# Altium footprint library Con Mod Jack PCB.PcbLib: 213 footprints (part 5 of 14)
Each footprint in its own frame and in the unit in brackets; x right, y up, seen from the top. Pads: shape width x height; smd on the part's side, far side on the other; paste and mask are expansions set on the pad; w line width, h text height; cw(c..) or ccw(c..) is an arc to the next point about the centre after c.
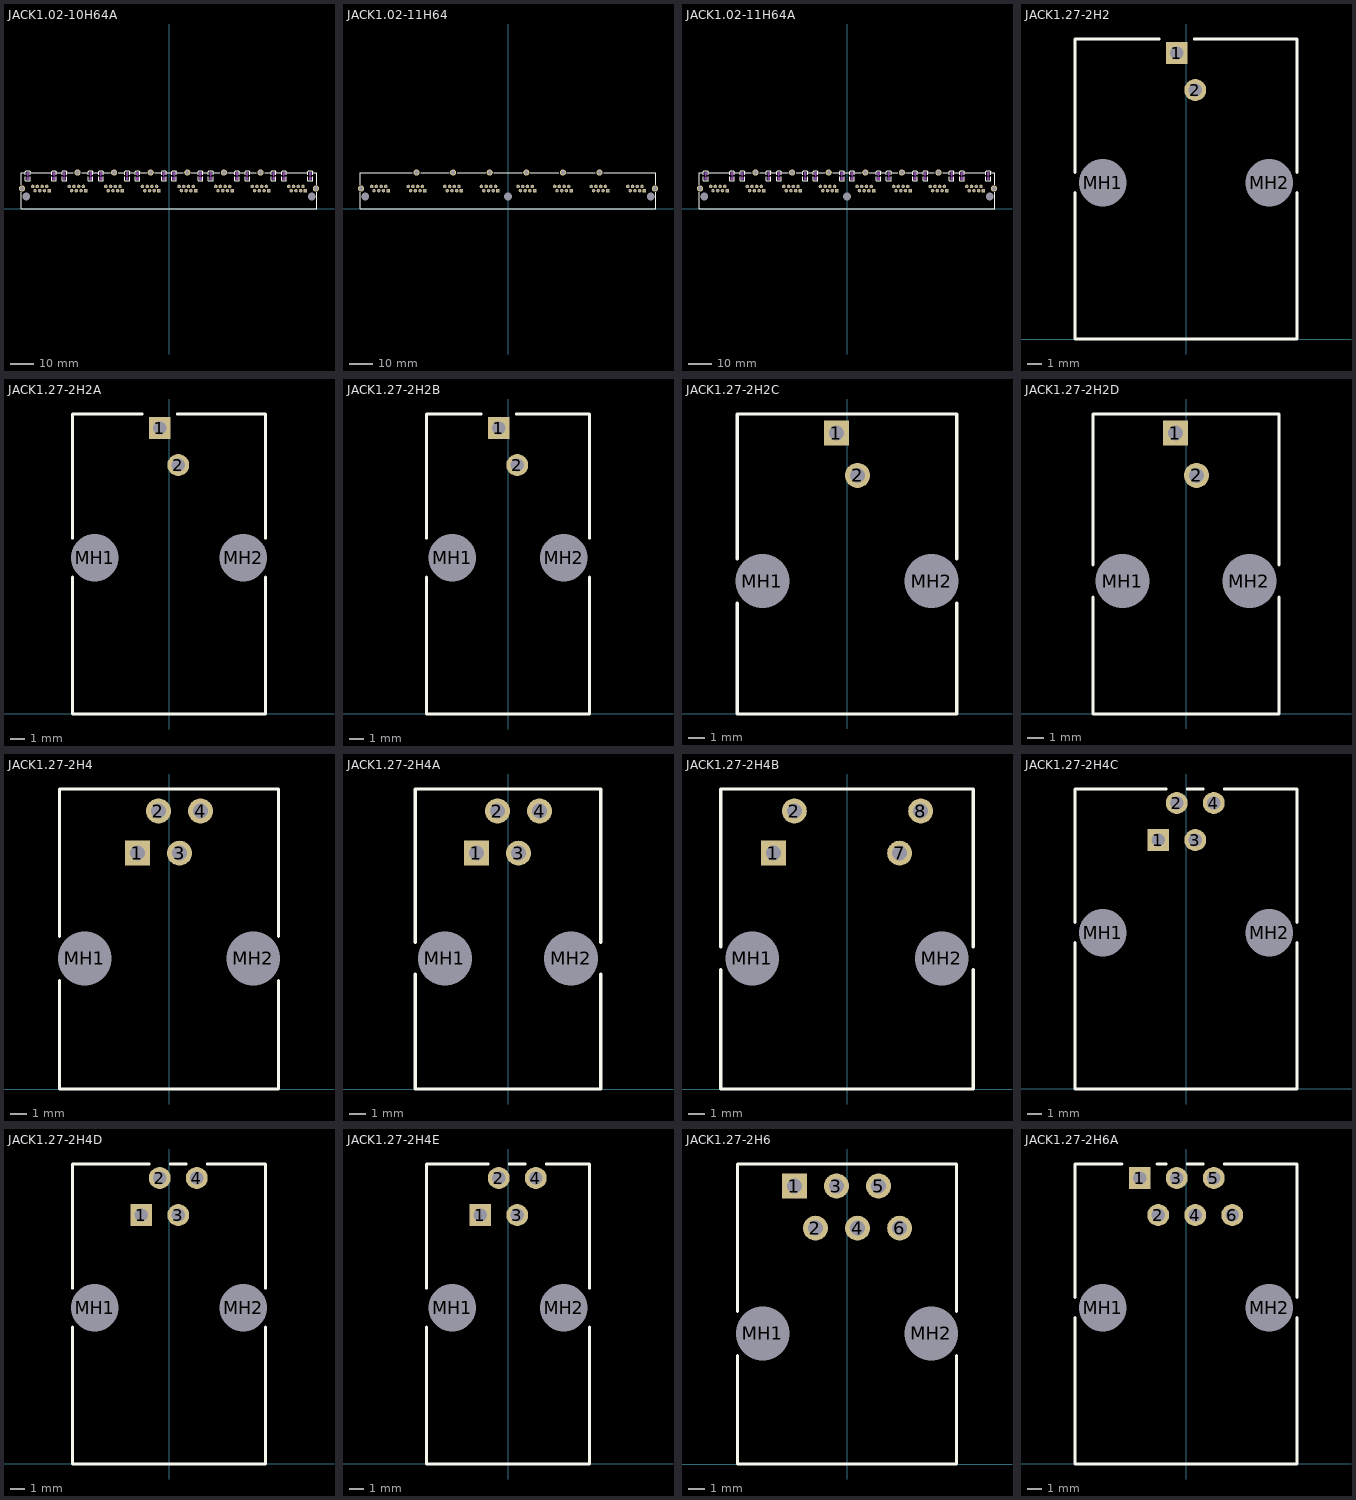
[diagram p4: the footprints below, top view; thin cyan lines are the x and y axes]

## JACK1.02-10H64A [mm] "Connector; PCB Jack, Thru-Hole; 8-Port, 8 Positions, 8 Loaded; Shielded with Lightpipes; Right Angle"
height 13.45
pads (74):
  rect 1.5x1.5 hole 0.9: A1(-51.562,7.72) B1(-35.814,7.72) C1(-20.066,7.72) D1(-4.318,7.72) E1(11.43,7.72) F1(27.178,7.72) G1(42.926,7.72) H1(58.674,7.72)
  round 1.5 hole 0.9: A2(-52.578,9.498) A3(-53.594,7.72) A4(-54.61,9.498) A5(-55.626,7.72) A6(-56.642,9.498) A7(-57.658,7.72) A8(-58.674,9.498) B2(-36.83,9.498) B3(-37.846,7.72) B4(-38.862,9.498) B5(-39.878,7.72) B6(-40.894,9.498) B7(-41.91,7.72) B8(-42.926,9.498) C2(-21.082,9.498) C3(-22.098,7.72) C4(-23.114,9.498) C5(-24.13,7.72) C6(-25.146,9.498) C7(-26.162,7.72) C8(-27.178,9.498) D2(-5.334,9.498) D3(-6.35,7.72) D4(-7.366,9.498) D5(-8.382,7.72) D6(-9.398,9.498) D7(-10.414,7.72) D8(-11.43,9.498) E2(10.414,9.498) E3(9.398,7.72) E4(8.382,9.498) E5(7.366,7.72) E6(6.35,9.498) E7(5.334,7.72) E8(4.318,9.498) F2(26.162,9.498) F3(25.146,7.72) F4(24.13,9.498) F5(23.114,7.72) F6(22.098,9.498) F7(21.082,7.72) F8(20.066,9.498) G2(41.91,9.498) G3(40.894,7.72) G4(39.878,9.498) G5(38.862,7.72) G6(37.846,9.498) G7(36.83,7.72) G8(35.814,9.498) H2(57.658,9.498) H3(56.642,7.72) H4(55.626,9.498) H5(54.61,7.72) H6(53.594,9.498) H7(52.578,7.72) H8(51.562,9.498)
  round 2.65 hole 1.6: MH1(-63.221,8.609) MH2(-39.37,15.492) MH3(-23.622,15.492) MH4(-7.874,15.492) MH5(7.874,15.492) MH6(23.622,15.492) MH7(39.37,15.492) MH8(63.221,8.609)
  round 2.95 hole 3.25: MH9(-61.468,5.18) MH10(61.468,5.18)
Top Overlay:
  drawing of 156 lines, arcs and shapes, not listed
Mechanical 1:
  rectangle: -61.382,12.378 -60.182,13.578
  rectangle: -61.382,14.461 -60.182,15.661
  rectangle: -50.054,12.378 -48.854,13.578
  rectangle: -50.054,14.461 -48.854,15.661
  rectangle: -45.634,12.378 -44.434,13.578
  rectangle: -45.634,14.461 -44.434,15.661
  rectangle: -34.306,12.378 -33.106,13.578
  rectangle: -34.306,14.461 -33.106,15.661
  rectangle: -29.886,12.378 -28.686,13.578
  rectangle: -29.886,14.461 -28.686,15.661
  rectangle: -18.558,12.378 -17.358,13.578
  rectangle: -18.558,14.461 -17.358,15.661
  rectangle: -14.138,12.378 -12.938,13.578
  rectangle: -14.138,14.461 -12.938,15.661
  rectangle: -2.81,12.378 -1.61,13.578
  rectangle: -2.81,14.461 -1.61,15.661
  rectangle: 1.61,12.378 2.81,13.578
  rectangle: 1.61,14.461 2.81,15.661
  rectangle: 12.938,12.378 14.138,13.578
  rectangle: 12.938,14.461 14.138,15.661
  rectangle: 17.358,12.378 18.558,13.578
  rectangle: 17.358,14.461 18.558,15.661
  rectangle: 28.686,12.378 29.886,13.578
  rectangle: 28.686,14.461 29.886,15.661
  rectangle: 33.106,12.378 34.306,13.578
  rectangle: 33.106,14.461 34.306,15.661
  rectangle: 44.434,12.378 45.634,13.578
  rectangle: 44.434,14.461 45.634,15.661
  rectangle: 48.854,12.378 50.054,13.578
  rectangle: 48.854,14.461 50.054,15.661
  rectangle: 60.182,12.378 61.382,13.578
  rectangle: 60.182,14.461 61.382,15.661
  lines w0.1: -60.982,14.019 -60.782,14.019 ; -60.782,13.819 -60.782,14.019 ; -60.782,14.219 -60.782,14.019 ; -60.582,14.019 -60.782,14.019 ; -49.654,14.019 -49.454,14.019 ; -49.454,13.819 -49.454,14.019 ; -49.454,14.219 -49.454,14.019 ; -49.254,14.019 -49.454,14.019 ; -45.234,14.019 -45.034,14.019 ; -45.034,13.819 -45.034,14.019 ; -45.034,14.219 -45.034,14.019 ; -44.834,14.019 -45.034,14.019 ; -33.906,14.019 -33.706,14.019 ; -33.706,13.819 -33.706,14.019 ; -33.706,14.219 -33.706,14.019 ; -33.506,14.019 -33.706,14.019 ; -29.486,14.019 -29.286,14.019 ; -29.286,13.819 -29.286,14.019 ; -29.286,14.219 -29.286,14.019 ; -29.086,14.019 -29.286,14.019 ; -18.158,14.019 -17.958,14.019 ; -17.958,13.819 -17.958,14.019 ; -17.958,14.219 -17.958,14.019 ; -17.758,14.019 -17.958,14.019 ; -13.738,14.019 -13.538,14.019 ; -13.538,13.819 -13.538,14.019 ; -13.538,14.219 -13.538,14.019 ; -13.338,14.019 -13.538,14.019 ; -2.41,14.019 -2.21,14.019 ; -2.21,13.819 -2.21,14.019 ; -2.21,14.219 -2.21,14.019 ; -2.01,14.019 -2.21,14.019 ; 2.01,14.019 2.21,14.019 ; 2.21,13.819 2.21,14.019 ; 2.21,14.219 2.21,14.019 ; 2.41,14.019 2.21,14.019 ; 13.338,14.019 13.538,14.019 ; 13.538,13.819 13.538,14.019 ; 13.538,14.219 13.538,14.019 ; 13.738,14.019 13.538,14.019 ; 17.758,14.019 17.958,14.019 ; 17.958,13.819 17.958,14.019 ; 17.958,14.219 17.958,14.019 ; 18.158,14.019 17.958,14.019 ; 29.086,14.019 29.286,14.019 ; 29.286,13.819 29.286,14.019 ; 29.286,14.219 29.286,14.019 ; 29.486,14.019 29.286,14.019 ; 33.506,14.019 33.706,14.019 ; 33.706,13.819 33.706,14.019 ; 33.706,14.219 33.706,14.019 ; 33.906,14.019 33.706,14.019 ; 44.834,14.019 45.034,14.019 ; 45.034,13.819 45.034,14.019 ; 45.034,14.219 45.034,14.019 ; 45.234,14.019 45.034,14.019 ; 49.254,14.019 49.454,14.019 ; 49.454,13.819 49.454,14.019 ; 49.454,14.219 49.454,14.019 ; 49.654,14.019 49.454,14.019 ; 60.582,14.019 60.782,14.019 ; 60.782,13.819 60.782,14.019 ; 60.782,14.219 60.782,14.019 ; 60.982,14.019 60.782,14.019

## JACK1.02-11H64 [mm] "Connector; PCB Jack, Thru-Hole; 8-Port, 8 Positions, 8 Loaded; Shielded without Lightpipes; Right Angle"
height 13.45
pads (75):
  rect 1.5x1.5 hole 0.9: A1(-51.562,7.72) B1(-35.814,7.72) C1(-20.066,7.72) D1(-4.318,7.72) E1(11.43,7.72) F1(27.178,7.72) G1(42.926,7.72) H1(58.674,7.72)
  round 1.5 hole 0.9: A2(-52.578,9.498) A3(-53.594,7.72) A4(-54.61,9.498) A5(-55.626,7.72) A6(-56.642,9.498) A7(-57.658,7.72) A8(-58.674,9.498) B2(-36.83,9.498) B3(-37.846,7.72) B4(-38.862,9.498) B5(-39.878,7.72) B6(-40.894,9.498) B7(-41.91,7.72) B8(-42.926,9.498) C2(-21.082,9.498) C3(-22.098,7.72) C4(-23.114,9.498) C5(-24.13,7.72) C6(-25.146,9.498) C7(-26.162,7.72) C8(-27.178,9.498) D2(-5.334,9.498) D3(-6.35,7.72) D4(-7.366,9.498) D5(-8.382,7.72) D6(-9.398,9.498) D7(-10.414,7.72) D8(-11.43,9.498) E2(10.414,9.498) E3(9.398,7.72) E4(8.382,9.498) E5(7.366,7.72) E6(6.35,9.498) E7(5.334,7.72) E8(4.318,9.498) F2(26.162,9.498) F3(25.146,7.72) F4(24.13,9.498) F5(23.114,7.72) F6(22.098,9.498) F7(21.082,7.72) F8(20.066,9.498) G2(41.91,9.498) G3(40.894,7.72) G4(39.878,9.498) G5(38.862,7.72) G6(37.846,9.498) G7(36.83,7.72) G8(35.814,9.498) H2(57.658,9.498) H3(56.642,7.72) H4(55.626,9.498) H5(54.61,7.72) H6(53.594,9.498) H7(52.578,7.72) H8(51.562,9.498)
  round 2.65 hole 1.6: MH1(-63.221,8.609) MH2(-39.37,15.492) MH3(-23.622,15.492) MH4(-7.874,15.492) MH5(7.874,15.492) MH6(23.622,15.492) MH7(39.37,15.492) MH8(63.221,8.609)
  round 2.95 hole 3.25: MH9(-61.468,5.18) MH10(0,5.18) MH11(61.468,5.18)
Top Overlay:
  lines w0.2: -63.493,6.906 -63.493,0 63.493,0 63.493,6.906 ; -63.493,10.312 -63.493,15.47 -41.095,15.47 ; -37.645,15.47 -25.347,15.47 ; -21.897,15.47 -9.599,15.47 ; -6.149,15.47 6.149,15.47 ; 9.599,15.47 21.897,15.47 ; 25.347,15.47 37.645,15.47 ; 41.095,15.47 63.493,15.47 63.493,10.312

## JACK1.02-11H64A [mm] "Connector; PCB Jack, Thru-Hole; 8-Port, 8 Positions, 8 Loaded; Shielded with Lightpipes; Right Angle"
height 13.45
pads (75):
  rect 1.5x1.5 hole 0.9: A1(-51.562,7.72) B1(-35.814,7.72) C1(-20.066,7.72) D1(-4.318,7.72) E1(11.43,7.72) F1(27.178,7.72) G1(42.926,7.72) H1(58.674,7.72)
  round 1.5 hole 0.9: A2(-52.578,9.498) A3(-53.594,7.72) A4(-54.61,9.498) A5(-55.626,7.72) A6(-56.642,9.498) A7(-57.658,7.72) A8(-58.674,9.498) B2(-36.83,9.498) B3(-37.846,7.72) B4(-38.862,9.498) B5(-39.878,7.72) B6(-40.894,9.498) B7(-41.91,7.72) B8(-42.926,9.498) C2(-21.082,9.498) C3(-22.098,7.72) C4(-23.114,9.498) C5(-24.13,7.72) C6(-25.146,9.498) C7(-26.162,7.72) C8(-27.178,9.498) D2(-5.334,9.498) D3(-6.35,7.72) D4(-7.366,9.498) D5(-8.382,7.72) D6(-9.398,9.498) D7(-10.414,7.72) D8(-11.43,9.498) E2(10.414,9.498) E3(9.398,7.72) E4(8.382,9.498) E5(7.366,7.72) E6(6.35,9.498) E7(5.334,7.72) E8(4.318,9.498) F2(26.162,9.498) F3(25.146,7.72) F4(24.13,9.498) F5(23.114,7.72) F6(22.098,9.498) F7(21.082,7.72) F8(20.066,9.498) G2(41.91,9.498) G3(40.894,7.72) G4(39.878,9.498) G5(38.862,7.72) G6(37.846,9.498) G7(36.83,7.72) G8(35.814,9.498) H2(57.658,9.498) H3(56.642,7.72) H4(55.626,9.498) H5(54.61,7.72) H6(53.594,9.498) H7(52.578,7.72) H8(51.562,9.498)
  round 2.65 hole 1.6: MH1(-63.221,8.609) MH2(-39.37,15.492) MH3(-23.622,15.492) MH4(-7.874,15.492) MH5(7.874,15.492) MH6(23.622,15.492) MH7(39.37,15.492) MH8(63.221,8.609)
  round 2.95 hole 3.25: MH9(-61.468,5.18) MH10(0,5.18) MH11(61.468,5.18)
Top Overlay:
  drawing of 156 lines, arcs and shapes, not listed
Mechanical 1:
  rectangle: -61.382,12.378 -60.182,13.578
  rectangle: -61.382,14.461 -60.182,15.661
  rectangle: -50.054,12.378 -48.854,13.578
  rectangle: -50.054,14.461 -48.854,15.661
  rectangle: -45.634,12.378 -44.434,13.578
  rectangle: -45.634,14.461 -44.434,15.661
  rectangle: -34.306,12.378 -33.106,13.578
  rectangle: -34.306,14.461 -33.106,15.661
  rectangle: -29.886,12.378 -28.686,13.578
  rectangle: -29.886,14.461 -28.686,15.661
  rectangle: -18.558,12.378 -17.358,13.578
  rectangle: -18.558,14.461 -17.358,15.661
  rectangle: -14.138,12.378 -12.938,13.578
  rectangle: -14.138,14.461 -12.938,15.661
  rectangle: -2.81,12.378 -1.61,13.578
  rectangle: -2.81,14.461 -1.61,15.661
  rectangle: 1.61,12.378 2.81,13.578
  rectangle: 1.61,14.461 2.81,15.661
  rectangle: 12.938,12.378 14.138,13.578
  rectangle: 12.938,14.461 14.138,15.661
  rectangle: 17.358,12.378 18.558,13.578
  rectangle: 17.358,14.461 18.558,15.661
  rectangle: 28.686,12.378 29.886,13.578
  rectangle: 28.686,14.461 29.886,15.661
  rectangle: 33.106,12.378 34.306,13.578
  rectangle: 33.106,14.461 34.306,15.661
  rectangle: 44.434,12.378 45.634,13.578
  rectangle: 44.434,14.461 45.634,15.661
  rectangle: 48.854,12.378 50.054,13.578
  rectangle: 48.854,14.461 50.054,15.661
  rectangle: 60.182,12.378 61.382,13.578
  rectangle: 60.182,14.461 61.382,15.661
  lines w0.1: -60.982,14.019 -60.782,14.019 ; -60.782,13.819 -60.782,14.019 ; -60.782,14.219 -60.782,14.019 ; -60.582,14.019 -60.782,14.019 ; -49.654,14.019 -49.454,14.019 ; -49.454,13.819 -49.454,14.019 ; -49.454,14.219 -49.454,14.019 ; -49.254,14.019 -49.454,14.019 ; -45.234,14.019 -45.034,14.019 ; -45.034,13.819 -45.034,14.019 ; -45.034,14.219 -45.034,14.019 ; -44.834,14.019 -45.034,14.019 ; -33.906,14.019 -33.706,14.019 ; -33.706,13.819 -33.706,14.019 ; -33.706,14.219 -33.706,14.019 ; -33.506,14.019 -33.706,14.019 ; -29.486,14.019 -29.286,14.019 ; -29.286,13.819 -29.286,14.019 ; -29.286,14.219 -29.286,14.019 ; -29.086,14.019 -29.286,14.019 ; -18.158,14.019 -17.958,14.019 ; -17.958,13.819 -17.958,14.019 ; -17.958,14.219 -17.958,14.019 ; -17.758,14.019 -17.958,14.019 ; -13.738,14.019 -13.538,14.019 ; -13.538,13.819 -13.538,14.019 ; -13.538,14.219 -13.538,14.019 ; -13.338,14.019 -13.538,14.019 ; -2.41,14.019 -2.21,14.019 ; -2.21,13.819 -2.21,14.019 ; -2.21,14.219 -2.21,14.019 ; -2.01,14.019 -2.21,14.019 ; 2.01,14.019 2.21,14.019 ; 2.21,13.819 2.21,14.019 ; 2.21,14.219 2.21,14.019 ; 2.41,14.019 2.21,14.019 ; 13.338,14.019 13.538,14.019 ; 13.538,13.819 13.538,14.019 ; 13.538,14.219 13.538,14.019 ; 13.738,14.019 13.538,14.019 ; 17.758,14.019 17.958,14.019 ; 17.958,13.819 17.958,14.019 ; 17.958,14.219 17.958,14.019 ; 18.158,14.019 17.958,14.019 ; 29.086,14.019 29.286,14.019 ; 29.286,13.819 29.286,14.019 ; 29.286,14.219 29.286,14.019 ; 29.486,14.019 29.286,14.019 ; 33.506,14.019 33.706,14.019 ; 33.706,13.819 33.706,14.019 ; 33.706,14.219 33.706,14.019 ; 33.906,14.019 33.706,14.019 ; 44.834,14.019 45.034,14.019 ; 45.034,13.819 45.034,14.019 ; 45.034,14.219 45.034,14.019 ; 45.234,14.019 45.034,14.019 ; 49.254,14.019 49.454,14.019 ; 49.454,13.819 49.454,14.019 ; 49.454,14.219 49.454,14.019 ; 49.654,14.019 49.454,14.019 ; 60.582,14.019 60.782,14.019 ; 60.782,13.819 60.782,14.019 ; 60.782,14.219 60.782,14.019 ; 60.982,14.019 60.782,14.019

## JACK1.27-2H2 [mm] "Connector; PCB Jack, Thru-Hole; 1-Port; Unshielded without Lightpipes; Right Angle"
height 18.92
pads (4):
  rect 1.5x1.5 hole 0.9: 1(-0.635,19.61)
  round 1.5 hole 0.9: 2(0.635,17.07)
  round 2.95 hole 3.25: MH1(-5.715,10.72) MH2(5.715,10.72)
Top Overlay:
  lines w0.2: -7.62,10.033 -7.62,0 7.62,0 7.62,10.033 ; -7.62,11.407 -7.62,20.57 -1.835,20.57 ; 0.565,20.57 7.62,20.57 7.62,11.407

## JACK1.27-2H2A [mm] "Connector; PCB Jack, Thru-Hole; 1-Port, 6 Positions, 2 Loaded; Unshielded without Lightpipes; Right Angle"
height 18.92
pads (4):
  rect 1.5x1.5 hole 0.9: 1(-0.635,19.61)
  round 1.5 hole 0.9: 2(0.635,17.07)
  round 2.95 hole 3.25: MH1(-5.08,10.72) MH2(5.08,10.72)
Top Overlay:
  lines w0.2: -6.605,9.388 -6.605,0 6.605,0 6.605,9.388 ; -6.605,12.052 -6.605,20.57 -1.835,20.57 ; 0.565,20.57 6.605,20.57 6.605,12.052

## JACK1.27-2H2B [mm] "Connector; PCB Jack, Thru-Hole; 1-Port, 4 Positions, 2 Loaded; Unshielded without Lightpipes; Right Angle"
height 18.92
pads (4):
  rect 1.5x1.5 hole 0.9: 1(-0.635,19.61)
  round 1.5 hole 0.9: 2(0.635,17.07)
  round 2.95 hole 3.25: MH1(-3.81,10.72) MH2(3.81,10.72)
Top Overlay:
  lines w0.2: -5.59,9.388 -5.59,0 5.59,0 5.59,9.388 ; -5.59,12.052 -5.59,20.57 -1.835,20.57 ; 0.565,20.57 5.59,20.57 5.59,12.052

## JACK1.27-2H2C [mm] "Connector; PCB Jack, Thru-Hole; 1-Port, 6 Positions, 2 Loaded; Unshielded without Lightpipes; Right Angle"
height 11.58
pads (4):
  rect 1.5x1.5 hole 0.9: 1(-0.635,16.884)
  round 1.5 hole 0.9: 2(0.635,14.344)
  round 2.95 hole 3.25: MH1(-5.08,7.994) MH2(5.08,7.994)
Top Overlay:
  lines w0.2: -6.605,6.662 -6.605,0 6.605,0 6.605,6.662 ; -6.605,9.326 -6.605,18.034 6.605,18.034 6.605,9.326

## JACK1.27-2H2D [mm] "Connector; PCB Jack, Thru-Hole; 1-Port, 4 Positions, 2 Loaded; Unshielded without Lightpipes; Right Angle"
height 11.58
pads (4):
  rect 1.5x1.5 hole 0.9: 1(-0.635,16.884)
  round 1.5 hole 0.9: 2(0.635,14.344)
  round 2.95 hole 3.25: MH1(-3.81,7.994) MH2(3.81,7.994)
Top Overlay:
  lines w0.2: -5.588,7.025 -5.588,0 5.588,0 5.588,7.025 ; -5.588,8.963 -5.588,18.034 5.588,18.034 5.588,8.963

## JACK1.27-2H4 [mm] "Connector; PCB Jack, Thru-Hole; 1-Port, 6 Positions, 4 Loaded; Unshielded without Lightpipes; Right Angle"
height 11.65
pads (6):
  rect 1.5x1.5 hole 0.9: 1(-1.905,14.23)
  round 1.5 hole 0.9: 2(-0.635,16.77) 3(0.635,14.23) 4(1.905,16.77)
  round 2.95 hole 3.25: MH1(-5.08,7.88) MH2(5.08,7.88)
Top Overlay:
  lines w0.2: -6.605,6.548 -6.605,0 6.605,0 6.605,6.548 ; -6.605,9.212 -6.605,18.1 6.605,18.1 6.605,9.212

## JACK1.27-2H4A [mm] "Connector; PCB Jack, Thru-Hole; 1-Port, 4 Positions, 4 Loaded; Unshielded without Lightpipes; Right Angle"
height 11.65
pads (6):
  rect 1.5x1.5 hole 0.9: 1(-1.905,14.23)
  round 1.5 hole 0.9: 2(-0.635,16.77) 3(0.635,14.23) 4(1.905,16.77)
  round 2.95 hole 3.25: MH1(-3.81,7.88) MH2(3.81,7.88)
Top Overlay:
  lines w0.2: -5.59,6.914 -5.59,0 5.59,0 5.59,6.914 ; -5.59,8.846 -5.59,18.1 5.59,18.1 5.59,8.846

## JACK1.27-2H4B [mm] "Connector; PCB Jack, Thru-Hole; 1-Port, 8 Positions, 4 Loaded; Unshielded without Lightpipes; Right Angle"
height 11.65
pads (6):
  rect 1.5x1.5 hole 0.9: 1(-4.445,14.23)
  round 1.5 hole 0.9: 2(-3.175,16.77) 7(3.175,14.23) 8(4.445,16.77)
  round 2.95 hole 3.25: MH1(-5.715,7.88) MH2(5.715,7.88)
Top Overlay:
  lines w0.2: -7.62,7.193 -7.62,0 7.62,0 7.62,7.193 ; -7.62,8.567 -7.62,18.1 7.62,18.1 7.62,8.567

## JACK1.27-2H4C [mm] "Connector; PCB Jack, Thru-Hole; 1-Port; Unshielded without Lightpipes; Right Angle"
height 18.92
pads (6):
  rect 1.5x1.5 hole 0.9: 1(-1.905,17.07)
  round 1.5 hole 0.9: 2(-0.635,19.61) 3(0.635,17.07) 4(1.905,19.61)
  round 2.95 hole 3.25: MH1(-5.715,10.72) MH2(5.715,10.72)
Top Overlay:
  lines w0.2: -7.62,10.033 -7.62,0 7.62,0 7.62,10.033 ; -7.62,11.407 -7.62,20.57 -1.355,20.57 ; 0.085,20.57 1.185,20.57 ; 2.625,20.57 7.62,20.57 7.62,11.407

## JACK1.27-2H4D [mm] "Connector; PCB Jack, Thru-Hole; 1-Port, 6 Positions, 4 Loaded; Unshielded without Lightpipes; Right Angle"
height 18.92
pads (6):
  rect 1.5x1.5 hole 0.9: 1(-1.905,17.07)
  round 1.5 hole 0.9: 2(-0.635,19.61) 3(0.635,17.07) 4(1.905,19.61)
  round 2.95 hole 3.25: MH1(-5.08,10.72) MH2(5.08,10.72)
Top Overlay:
  lines w0.2: -6.605,9.388 -6.605,0 6.605,0 6.605,9.388 ; -6.605,12.052 -6.605,20.57 -1.355,20.57 ; 0.085,20.57 1.185,20.57 ; 2.625,20.57 6.605,20.57 6.605,12.052

## JACK1.27-2H4E [mm] "Connector; PCB Jack, Thru-Hole; 1-Port, 4 Positions, 4 Loaded; Unshielded without Lightpipes; Right Angle"
height 18.92
pads (6):
  rect 1.5x1.5 hole 0.9: 1(-1.905,17.07)
  round 1.5 hole 0.9: 2(-0.635,19.61) 3(0.635,17.07) 4(1.905,19.61)
  round 2.95 hole 3.25: MH1(-3.81,10.72) MH2(3.81,10.72)
Top Overlay:
  lines w0.2: -5.59,9.388 -5.59,0 5.59,0 5.59,9.388 ; -5.59,12.052 -5.59,20.57 -1.355,20.57 ; 0.085,20.57 1.185,20.57 ; 2.625,20.57 5.59,20.57 5.59,12.052

## JACK1.27-2H6 [mm] "Connector; PCB Jack, Thru-Hole; 1-Port, 6 Positions, 6 Loaded; Unshielded without Lightpipes; Right Angle"
height 11.65
pads (8):
  rect 1.5x1.5 hole 0.9: 1(-3.175,16.77)
  round 1.5 hole 0.9: 2(-1.905,14.23) 3(-0.635,16.77) 4(0.635,14.23) 5(1.905,16.77) 6(3.175,14.23)
  round 2.95 hole 3.25: MH1(-5.08,7.88) MH2(5.08,7.88)
Top Overlay:
  lines w0.2: -6.605,6.548 -6.605,0 6.605,0 6.605,6.548 ; -6.605,9.212 -6.605,18.1 6.605,18.1 6.605,9.212

## JACK1.27-2H6A [mm] "Connector; PCB Jack, Thru-Hole; 1-Port; Unshielded without Lightpipes; Right Angle"
height 18.92
pads (8):
  rect 1.5x1.5 hole 0.9: 1(-3.175,19.61)
  round 1.5 hole 0.9: 2(-1.905,17.07) 3(-0.635,19.61) 4(0.635,17.07) 5(1.905,19.61) 6(3.175,17.07)
  round 2.95 hole 3.25: MH1(-5.715,10.72) MH2(5.715,10.72)
Top Overlay:
  lines w0.2: -7.62,10.033 -7.62,0 7.62,0 7.62,10.033 ; -7.62,11.407 -7.62,20.57 -4.375,20.57 ; -1.975,20.57 -1.355,20.57 ; 0.085,20.57 1.185,20.57 ; 2.625,20.57 7.62,20.57 7.62,11.407